# Altium footprint library DXPpcb.PCBLIB: 575 footprints (part 3 of 36)
Each footprint in its own frame and in the unit in brackets; x right, y up, seen from the top. Pads: shape width x height; smd on the part's side, far side on the other; paste and mask are expansions set on the pad; w line width, h text height; cw(c..) or ccw(c..) is an arc to the next point about the centre after c.
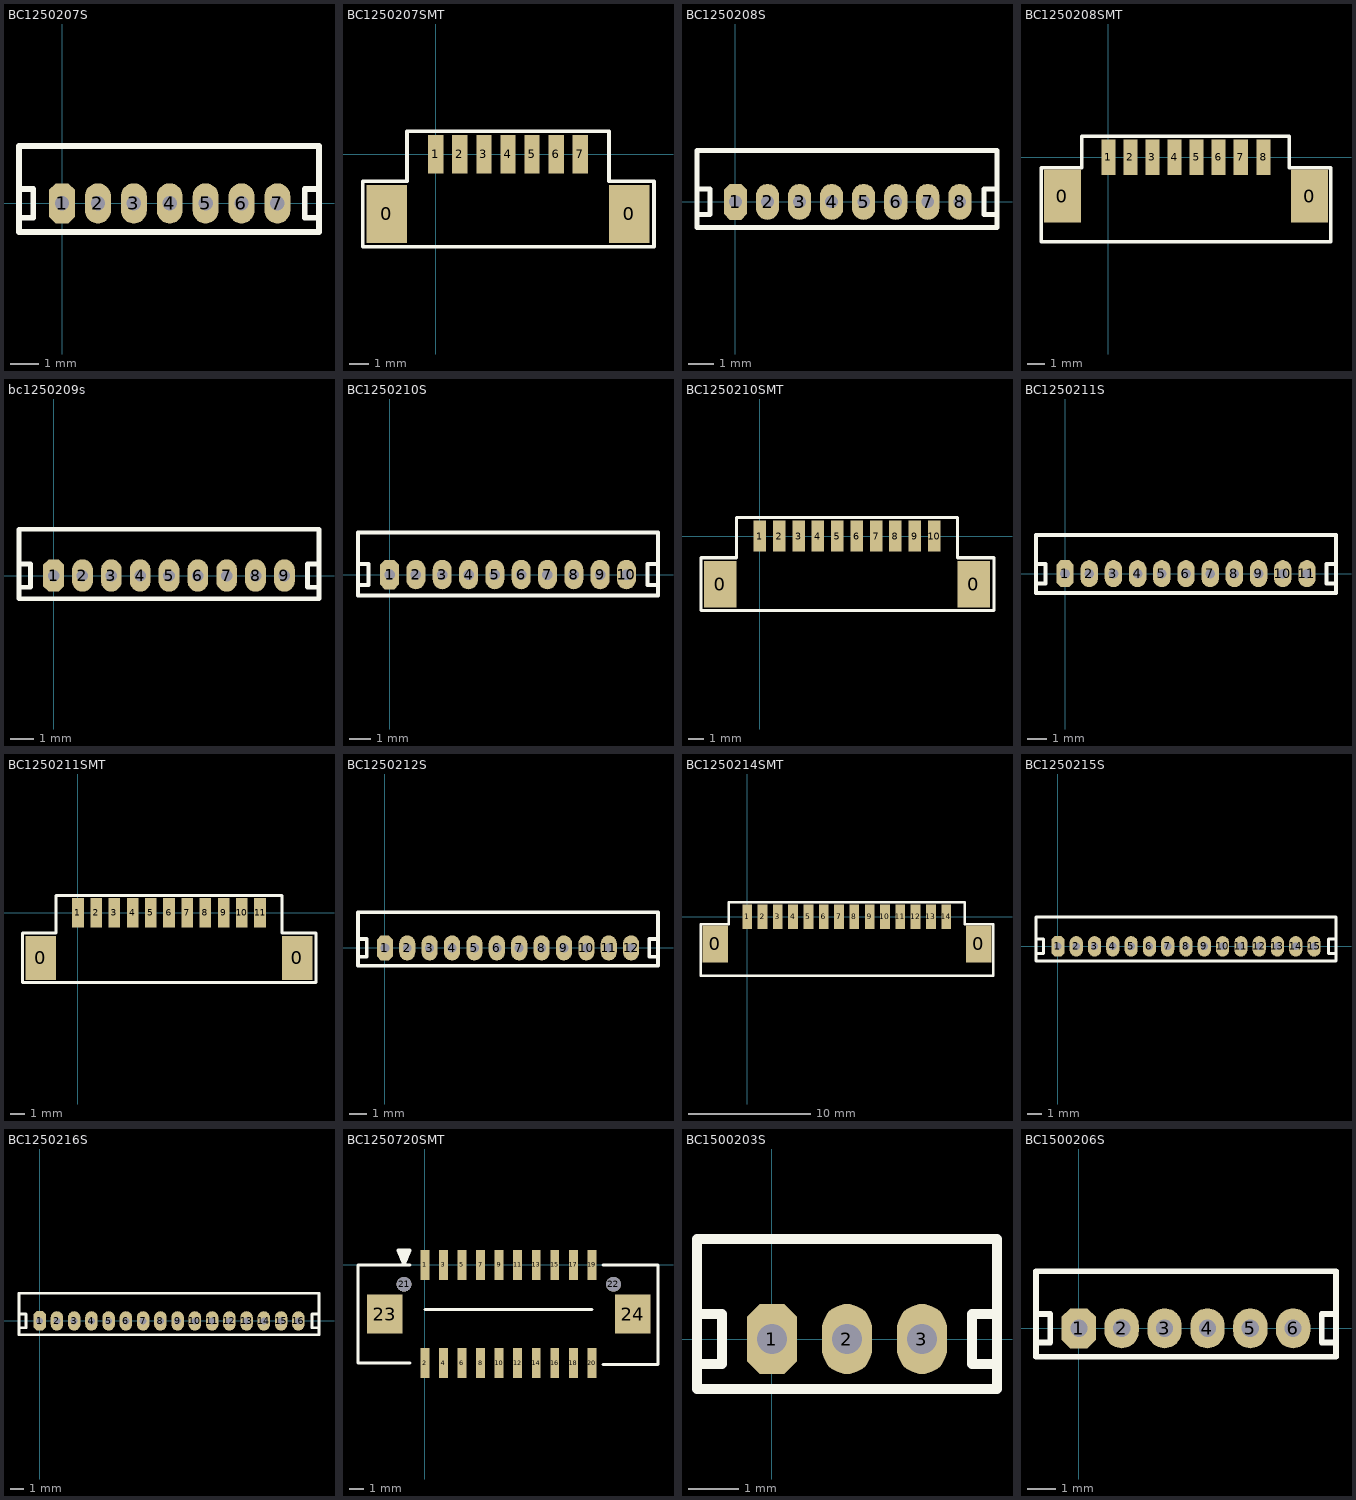
[diagram p2: the footprints below, top view; thin cyan lines are the x and y axes]

## BC1250207S [mm]
pads (7):
  oct 0.9x1.4 hole 0.5: 1(0,0)
  oval 0.9x1.4 hole 0.5: 2(1.25,0) 3(2.5,0) 4(3.75,0) 5(5,0) 6(6.25,0) 7(7.5,0)
TopOverlay:
  lines w0.2: -1.5,-0.5 -1,-0.5 -1,0.5 -1.5,0.5 ; 8.95,-0.5 8.45,-0.5 8.45,0.5 8.95,0.5 ; -1.5,-1 -1.5,2 8.95,2 8.95,-1 -1.5,-1

## BC1250207SMT [mm]
pads (9):
  rect 2.1x3 smd: 0(-2.55,-3.1) 0(10.05,-3.1)
  rect 0.8x2 smd: 1(0,0) 2(1.25,0) 3(2.5,0) 4(3.75,0) 5(5,0) 6(6.25,0) 7(7.5,0)
TopOverlay:
  lines w0.2: -3.8,-4.8 11.35,-4.8 11.35,-1.4 9,-1.4 9,1.2 -1.5,1.2 -1.5,-1.4 -3.8,-1.4 -3.8,-4.8

## BC1250208S [mm]
pads (8):
  oct 0.9x1.4 hole 0.5: 1(0,0)
  oval 0.9x1.4 hole 0.5: 2(1.25,0) 3(2.5,0) 4(3.75,0) 5(5,0) 6(6.25,0) 7(7.5,0) 8(8.75,0)
TopOverlay:
  lines w0.2: -1.5,-0.5 -1,-0.5 -1,0.5 -1.5,0.5 ; 10.2,-0.5 9.7,-0.5 9.7,0.5 10.2,0.5 ; -1.5,-1 -1.5,2 10.2,2 10.2,-1 -1.5,-1

## BC1250208SMT [mm]
pads (10):
  rect 2.1x3 smd: 0(-2.6,-2.2) 0(11.4,-2.2)
  rect 0.8x2 smd: 1(0,0) 2(1.25,0) 3(2.5,0) 4(3.75,0) 5(5,0) 6(6.25,0) 7(7.5,0) 8(8.8,0)
TopOverlay:
  lines w0.2: -3.8,-4.8 12.6,-4.8 12.6,-0.6 10.25,-0.6 10.25,1.2 -1.5,1.2 -1.5,-0.6 -3.8,-0.6 -3.8,-4.8

## bc1250209s [mm]
pads (9):
  oct 0.9x1.4 hole 0.5: 1(0,0)
  oval 0.9x1.4 hole 0.5: 2(1.25,0) 3(2.5,0) 4(3.75,0) 5(5,0) 6(6.25,0) 7(7.5,0) 8(8.75,0) 9(10,0)
TopOverlay:
  lines w0.2: -1.5,-0.5 -1,-0.5 -1,0.5 -1.5,0.5 ; 11.5,-0.5 11,-0.5 11,0.5 11.5,0.5 ; -1.5,-1 11.5,-1 11.5,2 -1.5,2 -1.5,-1

## BC1250210S [mm]
pads (10):
  oct 0.9x1.4 hole 0.5: 1(0,0)
  oval 0.9x1.4 hole 0.5: 2(1.25,0) 3(2.5,0) 4(3.75,0) 5(5,0) 6(6.25,0) 7(7.5,0) 8(8.75,0) 9(10,0) 10(11.25,0)
TopOverlay:
  lines w0.2: -1.5,-0.5 -1,-0.5 -1,0.5 -1.5,0.5 ; 12.75,-0.5 12.25,-0.5 12.25,0.5 12.75,0.5 ; -1.5,-1 12.75,-1 12.75,2 -1.5,2 -1.5,-1

## BC1250210SMT [mm]
pads (12):
  rect 2.1x3 smd: 0(-2.55,-3.1) 0(13.8,-3.1)
  rect 0.8x2 smd: 1(0,0) 2(1.25,0) 3(2.5,0) 4(3.75,0) 5(5,0) 6(6.25,0) 7(7.5,0) 8(8.75,0) 9(10,0) 10(11.25,0)
TopOverlay:
  lines w0.2: 12.7,1.2 -1.5,1.2 -1.5,-1.4 -3.8,-1.4 -3.8,-4.8 15.1,-4.8 15.1,-1.4 12.75,-1.4 12.75,1.2

## BC1250211S [mm]
pads (11):
  oct 0.9x1.4 hole 0.5: 1(0,0)
  oval 0.9x1.4 hole 0.5: 2(1.25,0) 3(2.5,0) 4(3.75,0) 5(5,0) 6(6.25,0) 7(7.5,0) 8(8.75,0) 9(10,0) 10(11.25,0) 11(12.5,0)
TopOverlay:
  lines w0.2: -1.5,-0.5 -1,-0.5 -1,0.5 -1.5,0.5 ; 14,-0.5 13.5,-0.5 13.5,0.5 14,0.5 ; -1.5,-1 14,-1 14,2 -1.5,2 -1.5,-1

## BC1250211SMT [mm]
pads (13):
  rect 2.1x3 smd: 0(-2.55,-3.1) 0(15.05,-3.1)
  rect 0.8x2 smd: 1(0,0) 2(1.25,0) 3(2.5,0) 4(3.75,0) 5(5,0) 6(6.25,0) 7(7.5,0) 8(8.75,0) 9(10,0) 10(11.25,0) 11(12.5,0)
TopOverlay:
  lines w0.2: -3.8,-4.8 -3.8,-1.4 -1.5,-1.4 -1.5,1.2 14,1.2 14,-1.4 16.35,-1.4 16.35,-4.8 -3.8,-4.8

## BC1250212S [mm]
pads (12):
  oct 0.9x1.4 hole 0.5: 1(0,0)
  oval 0.9x1.4 hole 0.5: 2(1.25,0) 3(2.5,0) 4(3.75,0) 5(5,0) 6(6.25,0) 7(7.5,0) 8(8.75,0) 9(10,0) 10(11.25,0) 11(12.5,0) 12(13.75,0)
TopOverlay:
  lines w0.2: -1.5,-0.5 -1,-0.5 -1,0.5 -1.5,0.5 ; 15.25,-0.5 14.75,-0.5 14.75,0.5 15.25,0.5 ; -1.5,-1 -1.5,2 15.25,2 15.25,-1 -1.5,-1

## BC1250214SMT [mm]
pads (16):
  rect 2.1x3 smd: 0(-2.6,-2.2) 0(18.9,-2.2)
  rect 0.8x2 smd: 1(0,0) 2(1.25,0) 3(2.5,0) 4(3.75,0) 5(5,0) 6(6.25,0) 7(7.5,0) 8(8.75,0) 9(10,0) 10(11.25,0) 11(12.5,0) 12(13.75,0) 13(15,0) 14(16.25,0)
TopOverlay:
  lines w0.2: -3.8,-4.8 20.1,-4.8 20.1,-0.6 17.75,-0.6 17.75,1.2 -1.5,1.2 -1.5,-0.6 -3.8,-0.6 -3.8,-4.8

## BC1250215S [mm]
pads (15):
  oct 0.9x1.4 hole 0.5: 1(0,0)
  oval 0.9x1.4 hole 0.5: 2(1.25,0) 3(2.5,0) 4(3.75,0) 5(5,0) 6(6.25,0) 7(7.5,0) 8(8.75,0) 9(10,0) 10(11.25,0) 11(12.5,0) 12(13.75,0) 13(15,0) 14(16.25,0) 15(17.5,0)
TopOverlay:
  lines w0.2: -1.5,-0.5 -1,-0.5 -1,0.5 -1.5,0.5 ; 19,-0.5 18.5,-0.5 18.5,0.5 19,0.5 ; -1.5,-1 -1.5,2 19,2 19,-1 -1.5,-1

## BC1250216S [mm]
pads (16):
  oct 0.9x1.4 hole 0.5: 1(0,0)
  oval 0.9x1.4 hole 0.5: 2(1.25,0) 3(2.5,0) 4(3.75,0) 5(5,0) 6(6.25,0) 7(7.5,0) 8(8.75,0) 9(10,0) 10(11.25,0) 11(12.5,0) 12(13.75,0) 13(15,0) 14(16.25,0) 15(17.5,0) 16(18.75,0)
TopOverlay:
  lines w0.2: -1.5,-0.5 -1,-0.5 -1,0.5 -1.5,0.5 ; 20.25,-0.5 19.75,-0.5 19.75,0.5 20.25,0.5 ; -1.5,-1 -1.5,2 20.25,2 20.25,-1 -1.5,-1

## BC1250720SMT [mm]
pads (24):
  rect 0.6x2 smd: 1(0,0) 2(0,-6.6) 3(1.25,0) 4(1.25,-6.6) 5(2.5,0) 6(2.5,-6.6) 7(3.75,0) 8(3.75,-6.6) 9(5,0) 10(5,-6.6) 11(6.25,0) 12(6.25,-6.6) 13(7.5,0) 14(7.5,-6.6) 15(8.75,0) 16(8.75,-6.6) 17(10,0) 18(10,-6.6) 19(11.25,0) 20(11.25,-6.6)
  round 1 hole 1: 21(-1.4,-1.3) 22(12.7,-1.3)
  rect 2.4x2.6 smd: 23(-2.7,-3.3) 24(14,-3.3)
TopOverlay:
  lines w0.2: -1.6,1 -1.5,0.4 ; -1.4,1 -1.4,0 ; -1.3,0.5 -1.2,1 ; -1,-6.6 -4.5,-6.6 -4.5,0 -1.5,0 -1,0 ; 0,-3 11.25,-3 ; 12,-6.7 15.7,-6.7 15.7,0 14.5,0 12,0 ; -1.4,0 -1.8,1 -1,1 -1.4,0

## BC1500203S [mm]
pads (3):
  oct 1x1.4 hole 0.6: 1(0,0)
  oval 1x1.4 hole 0.6: 2(1.5,0) 3(3,0)
TopOverlay:
  lines w0.2: -1.5,-0.5 -1,-0.5 -1,0.5 -1.5,0.5 ; 4.5,-0.5 4,-0.5 4,0.5 4.5,0.5 ; -1.5,-1 4.5,-1 4.5,2 -1.5,2 -1.5,-1

## BC1500206S [mm]
pads (6):
  oct 1.2x1.4 hole 0.6: 1(0,0)
  oval 1.2x1.4 hole 0.6: 2(1.5,0) 3(3,0) 4(4.5,0) 5(6,0) 6(7.5,0)
TopOverlay:
  lines w0.2: -1.5,-0.5 -1,-0.5 -1,0.5 -1.5,0.5 ; 9,-0.5 8.5,-0.5 8.5,0.5 9,0.5 ; -1.5,-1 -1.5,2 9,2 9,-1 -1.5,-1